# Altium footprint library BF998215.PcbLib: 1 footprints
Each footprint in its own frame and in the unit in brackets; x right, y up, seen from the top. Pads: shape width x height; smd on the part's side, far side on the other; paste and mask are expansions set on the pad; w line width, h text height; cw(c..) or ccw(c..) is an arc to the next point about the centre after c.
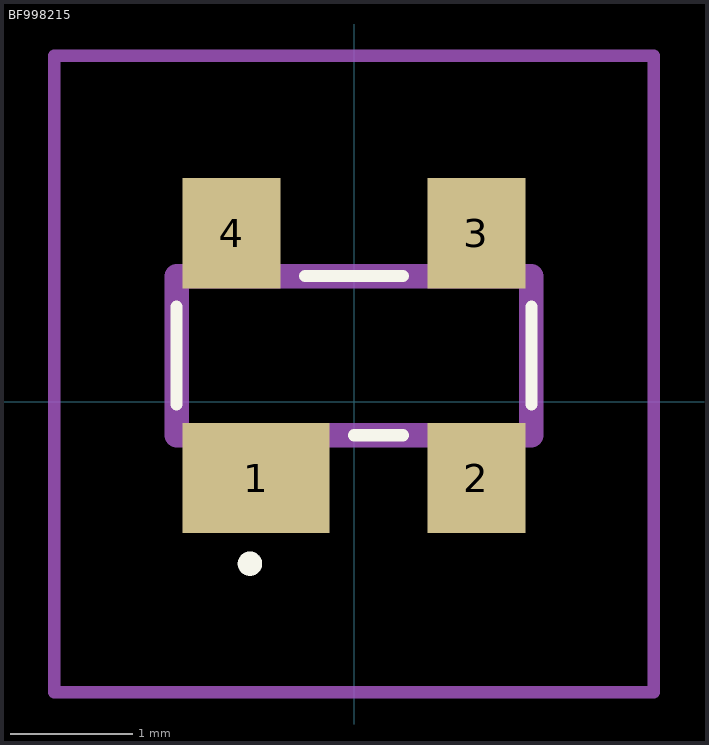
[diagram p0: the footprint, top view; thin cyan lines are the x and y axes]

## BF998215 [mm]
pads (4):
  rect 1.2x0.9 smd: 1(-0.8,-0.625)
  rect 0.8x0.9 smd: 2(1,-0.625) 3(1,1.375) 4(-1,1.375)
Top Overlay:
  lines w0.1: -1.45,-0.025 -1.45,0.775 ; -0.4,1.025 0.4,1.025 ; 0,-0.275 0.4,-0.275 ; 1.45,0.775 1.45,-0.025 ; -0.9,-1.325 -0.9,-1.325 ; -0.9,-1.325 cw(c-0.85,-1.325) -0.8,-1.325 ; -0.9,-1.325 ccw(c-0.85,-1.325) -0.8,-1.325 ; -0.8,-1.325 -0.8,-1.325 ; 1.45,-0.025 1.45,-0.025
Mechanical 15:
  lines w0.2: -1.45,-0.275 1.45,-0.275 1.45,1.025 -1.45,1.025 -1.45,-0.275
Mechanical 20:
  lines w0.1: -2.45,-2.375 2.45,-2.375 2.45,2.825 -2.45,2.825 -2.45,-2.375
3D body "BAS3007ARPPE6327HTSA1.stp": height 5.8, standoff -4.65, extent -10,-3.376 10,3.376